# Altium footprint library QFN_Sq_50P_Side_V.PcbLib: 33 footprints (part 3 of 3)
Each footprint in its own frame and in the unit in brackets; x right, y up, seen from the top. Pads: shape width x height; smd on the part's side, far side on the other; paste and mask are expansions set on the pad; w line width, h text height; cw(c..) or ccw(c..) is an arc to the next point about the centre after c.
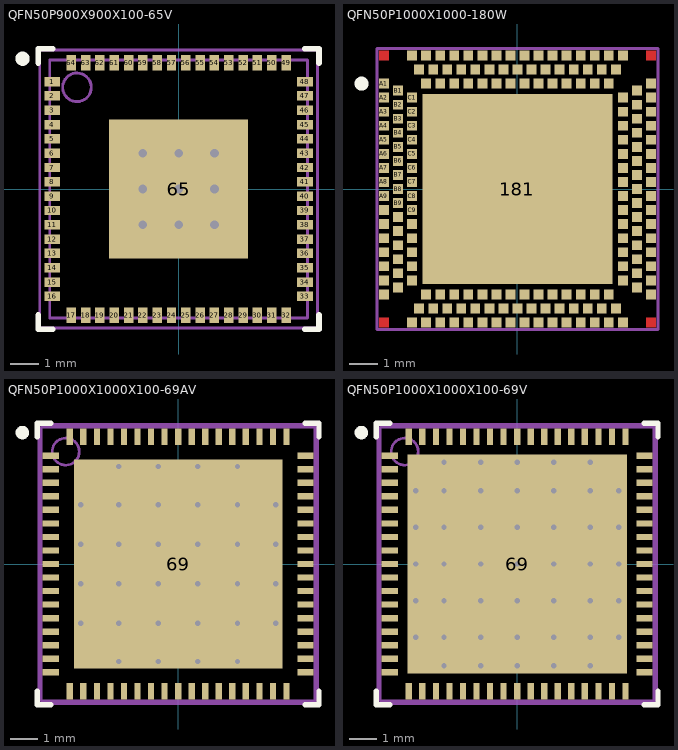
[diagram p2: the footprints below, top view; thin cyan lines are the x and y axes]

## QFN50P900X900X100-65V [mm] "QFN, 64-Leads, Body 9x9mm, Pitch 0.50mm, AD Recommended"
height 1
pads (65):
  rect 0.55x0.33 smd mask+0.06: 1(-4.41,3.75) 2(-4.41,3.25) 3(-4.41,2.75) 4(-4.41,2.25) 5(-4.41,1.75) 6(-4.41,1.25) 7(-4.41,0.75) 8(-4.41,0.25) 9(-4.41,-0.25) 10(-4.41,-0.75) 11(-4.41,-1.25) 12(-4.41,-1.75) 13(-4.41,-2.25) 14(-4.41,-2.75) 15(-4.41,-3.25) 16(-4.41,-3.75) 33(4.41,-3.75) 34(4.41,-3.25) 35(4.41,-2.75) 36(4.41,-2.25) 37(4.41,-1.75) 38(4.41,-1.25) 39(4.41,-0.75) 40(4.41,-0.25) 41(4.41,0.25) 42(4.41,0.75) 43(4.41,1.25) 44(4.41,1.75) 45(4.41,2.25) 46(4.41,2.75) 47(4.41,3.25) 48(4.41,3.75)
  rect 0.33x0.55 smd mask+0.06: 17(-3.75,-4.41) 18(-3.25,-4.41) 19(-2.75,-4.41) 20(-2.25,-4.41) 21(-1.75,-4.41) 22(-1.25,-4.41) 23(-0.75,-4.41) 24(-0.25,-4.41) 25(0.25,-4.41) 26(0.75,-4.41) 27(1.25,-4.41) 28(1.75,-4.41) 29(2.25,-4.41) 30(2.75,-4.41) 31(3.25,-4.41) 32(3.75,-4.41) 49(3.75,4.41) 50(3.25,4.41) 51(2.75,4.41) 52(2.25,4.41) 53(1.75,4.41) 54(1.25,4.41) 55(0.75,4.41) 56(0.25,4.41) 57(-0.25,4.41) 58(-0.75,4.41) 59(-1.25,4.41) 60(-1.75,4.41) 61(-2.25,4.41) 62(-2.75,4.41) 63(-3.25,4.41) 64(-3.75,4.41)
  rect 4.85x4.85 smd paste-2.425 mask-0.1: 65(0,0)
via 1.25,-1.25 diameter 0.6 hole 0.3
via 0,-1.25 diameter 0.6 hole 0.3
via -1.25,-1.25 diameter 0.6 hole 0.3
via 1.25,0 diameter 0.6 hole 0.3
via 0,0 diameter 0.6 hole 0.3
via -1.25,0 diameter 0.6 hole 0.3
via -1.25,1.25 diameter 0.6 hole 0.3
via 0,1.25 diameter 0.6 hole 0.3
via 1.25,1.25 diameter 0.6 hole 0.3
Top Overlay:
  circle w0.25: c-5.45,4.55 r0.125
  lines w0.2: -4.9,-4.4 -4.9,-4.9 -4.4,-4.9 ; -4.9,4.4 -4.9,4.9 -4.4,4.9 ; 4.4,-4.9 4.9,-4.9 4.9,-4.4 ; 4.4,4.9 4.9,4.9 4.9,4.4
Top Paste:
  region: 1.1,2.35 0.15,2.35 0.15,1.4 1.1,1.4
  region: -0.15,2.35 -1.1,2.35 -1.1,1.4 -0.15,1.4
  region: 2.35,2.35 1.4,2.35 1.4,1.4 2.35,1.4
  rectangle: -2.35,1.4 -1.4,2.35
  rectangle: -1.1,-2.35 -0.15,-1.4
  rectangle: 0.15,-2.35 1.1,-1.4
  rectangle: -2.35,-2.35 -1.4,-1.4
  region: 2.35,-1.4 1.4,-1.4 1.4,-2.35 2.35,-2.35
  region: 2.35,-0.15 1.4,-0.15 1.4,-1.1 2.35,-1.1
  region: 2.35,1.1 1.4,1.1 1.4,0.15 2.35,0.15
  rectangle: -2.35,0.15 -1.4,1.1
  rectangle: -2.35,-1.1 -1.4,-0.15
  rectangle: 0.15,-1.1 1.1,-0.15
  rectangle: -1.1,-1.1 -0.15,-0.15
  rectangle: -1.1,0.15 -0.15,1.1
  rectangle: 0.15,0.15 1.1,1.1
Mechanical 13:
  circle w0.1: c-3.55,3.55 r0.5
  lines w0.1: -4.5,-4.5 -4.5,4.5 4.5,4.5 4.5,-4.5 -4.5,-4.5
Mechanical 15:
  lines w0.1: -0.5,0 0.5,0 ; 0,-0.5 0,0.5 ; -4.85,-4.85 -4.85,4.85 4.85,4.85 4.85,-4.85 -4.85,-4.85
3D body: height 1, standoff 0, extent -4.5,-4.5 4.5,4.5

## QFN50P1000X1000-180W [mm] "QFN, 180-Leads, Body 10x10mm, Pitch 0.5mm"
height 0.8
pads (181):
  rect 6.75x6.75 smd: 181(0,0)
  rect 0.35x0.35 smd: A1(-4.75,3.75) A2(-4.75,3.25) A3(-4.75,2.75) A4(-4.75,2.25) A5(-4.75,1.75) A6(-4.75,1.25) A7(-4.75,0.75) A8(-4.75,0.25) A9(-4.75,-0.25) A10(-4.75,-0.75) A11(-4.75,-1.25) A12(-4.75,-1.75) A13(-4.75,-2.25) A14(-4.75,-2.75) A15(-4.75,-3.25) A16(-4.75,-3.75) A17(-3.75,-4.75) A18(-3.25,-4.75) A19(-2.75,-4.75) A20(-2.25,-4.75) A21(-1.75,-4.75) A22(-1.25,-4.75) A23(-0.75,-4.75) A24(-0.25,-4.75) A25(0.25,-4.75) A26(0.75,-4.75) A27(1.25,-4.75) A28(1.75,-4.75) A29(2.25,-4.75) A30(2.75,-4.75) A31(3.25,-4.75) A32(3.75,-4.75) A33(4.75,-3.75) A34(4.75,-3.25) A35(4.75,-2.75) A36(4.75,-2.25) A37(4.75,-1.75) A38(4.75,-1.25) A39(4.75,-0.75) A40(4.75,-0.25) A41(4.75,0.25) A42(4.75,0.75) A43(4.75,1.25) A44(4.75,1.75) A45(4.75,2.25) A46(4.75,2.75) A47(4.75,3.25) A48(4.75,3.75) A49(3.75,4.75) A50(3.25,4.75) A51(2.75,4.75) A52(2.25,4.75) A53(1.75,4.75) A54(1.25,4.75) A55(0.75,4.75) A56(0.25,4.75) A57(-0.25,4.75) A58(-0.75,4.75) A59(-1.25,4.75) A60(-1.75,4.75) A61(-2.25,4.75) A62(-2.75,4.75) A63(-3.25,4.75) A64(-3.75,4.75) B1(-4.25,3.5) B2(-4.25,3) B3(-4.25,2.5) B4(-4.25,2) B5(-4.25,1.5) B6(-4.25,1) B7(-4.25,0.5) B8(-4.25,0) B9(-4.25,-0.5) B10(-4.25,-1) B11(-4.25,-1.5) B12(-4.25,-2) B13(-4.25,-2.5) B14(-4.25,-3) B15(-4.25,-3.5) B16(-3.5,-4.25) B17(-3,-4.25) B18(-2.5,-4.25) B19(-2,-4.25) B20(-1.5,-4.25) B21(-1,-4.25) B22(-0.5,-4.25) B23(0,-4.25) B24(0.5,-4.25) B25(1,-4.25) B26(1.5,-4.25) B27(2,-4.25) B28(2.5,-4.25) B29(3,-4.25) B30(3.5,-4.25) B31(4.25,-3.5) B32(4.25,-3) B33(4.25,-2.5) B34(4.25,-2) B35(4.25,-1.5) B36(4.25,-1) B37(4.25,-0.5) B38(4.25,0) B39(4.25,0.5) B40(4.25,1) B41(4.25,1.5) B42(4.25,2) B43(4.25,2.5) B44(4.25,3) B45(4.25,3.5) B46(3.5,4.25) B47(3,4.25) B48(2.5,4.25) B49(2,4.25) B50(1.5,4.25) B51(1,4.25) B52(0.5,4.25) B53(0,4.25) B54(-0.5,4.25) B55(-1,4.25) B56(-1.5,4.25) B57(-2,4.25) B58(-2.5,4.25) B59(-3,4.25) B60(-3.5,4.25) C1(-3.75,3.25) C2(-3.75,2.75) C3(-3.75,2.25) C4(-3.75,1.75) C5(-3.75,1.25) C6(-3.75,0.75) C7(-3.75,0.25) C8(-3.75,-0.25) C9(-3.75,-0.75) C10(-3.75,-1.25) C11(-3.75,-1.75) C12(-3.75,-2.25) C13(-3.75,-2.75) C14(-3.75,-3.25) C15(-3.25,-3.75) C16(-2.75,-3.75) C17(-2.25,-3.75) C18(-1.75,-3.75) C19(-1.25,-3.75) C20(-0.75,-3.75) C21(-0.25,-3.75) C22(0.25,-3.75) C23(0.75,-3.75) C24(1.25,-3.75) C25(1.75,-3.75) C26(2.25,-3.75) C27(2.75,-3.75) C28(3.25,-3.75) C29(3.75,-3.25) C30(3.75,-2.75) C31(3.75,-2.25) C32(3.75,-1.75) C33(3.75,-1.25) C34(3.75,-0.75) C35(3.75,-0.25) C36(3.75,0.25) C37(3.75,0.75) C38(3.75,1.25) C39(3.75,1.75) C40(3.75,2.25) C41(3.75,2.75) C42(3.75,3.25) C43(3.25,3.75) C44(2.75,3.75) C45(2.25,3.75) C46(1.75,3.75) C47(1.25,3.75) C48(0.75,3.75) C49(0.25,3.75) C50(-0.25,3.75) C51(-0.75,3.75) C52(-1.25,3.75) C53(-1.75,3.75) C54(-2.25,3.75) C55(-2.75,3.75) C56(-3.25,3.75)
Top Layer:
  rectangle: -4.925,4.575 -4.575,4.925
  rectangle: -4.925,-4.925 -4.575,-4.575
  rectangle: 4.575,-4.925 4.925,-4.575
  rectangle: 4.575,4.575 4.925,4.925
Top Overlay:
  circle w0.25: c-5.55,3.75 r0.125
Mechanical 13:
  lines w0.1: -5,-5 5,-5 5,5 -5,5 -5,-5
3D body: height 0.8, standoff 0, extent -4.999,-4.999 4.999,4.999

## QFN50P1000X1000X100-69AV [mm] "QFN, 68-Leads, Body 10x10mm, Pitch 0.5mm, NSC Recommended"
height 1
pads (69):
  rect 0.6x0.23 smd paste-0.115 mask+0.051: 1(-4.7,4) 2(-4.7,3.5) 3(-4.7,3) 4(-4.7,2.5) 5(-4.7,2) 6(-4.7,1.5) 7(-4.7,1) 8(-4.7,0.5) 9(-4.7,0) 10(-4.7,-0.5) 11(-4.7,-1) 12(-4.7,-1.5) 13(-4.7,-2) 14(-4.7,-2.5) 15(-4.7,-3) 16(-4.7,-3.5) 17(-4.7,-4) 35(4.7,-4) 36(4.7,-3.5) 37(4.7,-3) 38(4.7,-2.5) 39(4.7,-2) 40(4.7,-1.5) 41(4.7,-1) 42(4.7,-0.5) 43(4.7,0) 44(4.7,0.5) 45(4.7,1) 46(4.7,1.5) 47(4.7,2) 48(4.7,2.5) 49(4.7,3) 50(4.7,3.5) 51(4.7,4)
  rect 0.23x0.6 smd paste-0.115 mask+0.051: 18(-4,-4.7) 19(-3.5,-4.7) 20(-3,-4.7) 21(-2.5,-4.7) 22(-2,-4.7) 23(-1.5,-4.7) 24(-1,-4.7) 25(-0.5,-4.7) 26(0,-4.7) 27(0.5,-4.7) 28(1,-4.7) 29(1.5,-4.7) 30(2,-4.7) 31(2.5,-4.7) 32(3,-4.7) 33(3.5,-4.7) 34(4,-4.7) 52(4,4.7) 53(3.5,4.7) 54(3,4.7) 55(2.5,4.7) 56(2,4.7) 57(1.5,4.7) 58(1,4.7) 59(0.5,4.7) 60(0,4.7) 61(-0.5,4.7) 62(-1,4.7) 63(-1.5,4.7) 64(-2,4.7) 65(-2.5,4.7) 66(-3,4.7) 67(-3.5,4.7) 68(-4,4.7)
  rect 7.7x7.7 smd paste-3.85 mask+0.051: 69(0,0)
via 0.73,0.73 diameter 0.5 hole 0.2
via -0.73,0.73 diameter 0.5 hole 0.2
via -0.73,-0.73 diameter 0.5 hole 0.2
via 0.73,-0.73 diameter 0.5 hole 0.2
via -2.19,0.73 diameter 0.5 hole 0.2
via 2.19,0.73 diameter 0.5 hole 0.2
via 2.19,-0.73 diameter 0.5 hole 0.2
via -2.19,-0.73 diameter 0.5 hole 0.2
via -2.19,-2.19 diameter 0.5 hole 0.2
via -0.73,-2.19 diameter 0.5 hole 0.2
via 0.73,-2.19 diameter 0.5 hole 0.2
via 2.19,-2.19 diameter 0.5 hole 0.2
via -2.19,2.19 diameter 0.5 hole 0.2
via -0.73,2.19 diameter 0.5 hole 0.2
via 0.73,2.19 diameter 0.5 hole 0.2
via 2.19,2.19 diameter 0.5 hole 0.2
via -2.19,3.6 diameter 0.5 hole 0.2
via -0.73,3.6 diameter 0.5 hole 0.2
via 0.73,3.6 diameter 0.5 hole 0.2
via 2.19,3.6 diameter 0.5 hole 0.2
via 0.73,-3.6 diameter 0.5 hole 0.2
via 2.19,-3.6 diameter 0.5 hole 0.2
via -0.73,-3.6 diameter 0.5 hole 0.2
via -2.19,-3.6 diameter 0.5 hole 0.2
via 3.6,-0.73 diameter 0.5 hole 0.2
via 3.6,-2.19 diameter 0.5 hole 0.2
via -3.6,-2.19 diameter 0.5 hole 0.2
via -3.6,-0.73 diameter 0.5 hole 0.2
via -3.6,2.19 diameter 0.5 hole 0.2
via -3.6,0.73 diameter 0.5 hole 0.2
via 3.6,2.19 diameter 0.5 hole 0.2
via 3.6,0.73 diameter 0.5 hole 0.2
Top Overlay:
  circle w0.25: c-5.75,4.85 r0.125
  lines w0.2: -5.2,-4.7 -5.2,-5.2 -4.7,-5.2 ; -5.2,4.7 -5.2,5.2 -4.7,5.2 ; 4.7,-5.2 5.2,-5.2 5.2,-4.7 ; 4.7,5.2 5.2,5.2 5.2,4.7
Top Paste:
  rectangle: -5.2,-4.115 -4.5,-3.885
  rectangle: -5.2,-3.615 -4.5,-3.385
  rectangle: -5.2,-3.115 -4.5,-2.885
  rectangle: -5.2,-2.615 -4.5,-2.385
  rectangle: -5.2,-2.115 -4.5,-1.885
  rectangle: -5.2,-1.615 -4.5,-1.385
  rectangle: -5.2,-1.115 -4.5,-0.885
  rectangle: -5.2,-0.615 -4.5,-0.385
  rectangle: -5.2,-0.115 -4.5,0.115
  rectangle: -5.2,0.385 -4.5,0.615
  rectangle: -5.2,0.885 -4.5,1.115
  rectangle: -5.2,1.385 -4.5,1.615
  rectangle: -5.2,1.885 -4.5,2.115
  rectangle: -5.2,2.385 -4.5,2.615
  rectangle: -5.2,2.885 -4.5,3.115
  rectangle: -5.2,3.385 -4.5,3.615
  rectangle: -5.2,3.885 -4.5,4.115
  region: -3.885,-5.2 -3.885,-4.5 -4.115,-4.5 -4.115,-5.2
  region: -3.385,-5.2 -3.385,-4.5 -3.615,-4.5 -3.615,-5.2
  region: -2.885,-5.2 -2.885,-4.5 -3.115,-4.5 -3.115,-5.2
  region: -2.385,-5.2 -2.385,-4.5 -2.615,-4.5 -2.615,-5.2
  region: -1.885,-5.2 -1.885,-4.5 -2.115,-4.5 -2.115,-5.2
  region: -1.385,-5.2 -1.385,-4.5 -1.615,-4.5 -1.615,-5.2
  region: -0.885,-5.2 -0.885,-4.5 -1.115,-4.5 -1.115,-5.2
  region: -0.385,-5.2 -0.385,-4.5 -0.615,-4.5 -0.615,-5.2
  region: 0.115,-5.2 0.115,-4.5 -0.115,-4.5 -0.115,-5.2
  region: 0.615,-5.2 0.615,-4.5 0.385,-4.5 0.385,-5.2
  region: 1.115,-5.2 1.115,-4.5 0.885,-4.5 0.885,-5.2
  region: 1.615,-5.2 1.615,-4.5 1.385,-4.5 1.385,-5.2
  region: 2.115,-5.2 2.115,-4.5 1.885,-4.5 1.885,-5.2
  region: 2.615,-5.2 2.615,-4.5 2.385,-4.5 2.385,-5.2
  region: 3.115,-5.2 3.115,-4.5 2.885,-4.5 2.885,-5.2
  region: 3.615,-5.2 3.615,-4.5 3.385,-4.5 3.385,-5.2
  region: 4.115,-5.2 4.115,-4.5 3.885,-4.5 3.885,-5.2
  region: 5.2,-3.885 4.5,-3.885 4.5,-4.115 5.2,-4.115
  region: 5.2,-3.385 4.5,-3.385 4.5,-3.615 5.2,-3.615
  region: 5.2,-2.885 4.5,-2.885 4.5,-3.115 5.2,-3.115
  region: 5.2,-2.385 4.5,-2.385 4.5,-2.615 5.2,-2.615
  region: 5.2,-1.885 4.5,-1.885 4.5,-2.115 5.2,-2.115
  region: 5.2,-1.385 4.5,-1.385 4.5,-1.615 5.2,-1.615
  region: 5.2,-0.885 4.5,-0.885 4.5,-1.115 5.2,-1.115
  region: 5.2,-0.385 4.5,-0.385 4.5,-0.615 5.2,-0.615
  region: 5.2,0.115 4.5,0.115 4.5,-0.115 5.2,-0.115
  region: 5.2,0.615 4.5,0.615 4.5,0.385 5.2,0.385
  region: 5.2,1.115 4.5,1.115 4.5,0.885 5.2,0.885
  region: 5.2,1.615 4.5,1.615 4.5,1.385 5.2,1.385
  region: 5.2,2.115 4.5,2.115 4.5,1.885 5.2,1.885
  region: 5.2,2.615 4.5,2.615 4.5,2.385 5.2,2.385
  region: 5.2,3.115 4.5,3.115 4.5,2.885 5.2,2.885
  region: 5.2,3.615 4.5,3.615 4.5,3.385 5.2,3.385
  region: 5.2,4.115 4.5,4.115 4.5,3.885 5.2,3.885
  region: 3.885,5.2 3.885,4.5 4.115,4.5 4.115,5.2
  region: 3.385,5.2 3.385,4.5 3.615,4.5 3.615,5.2
  region: 2.885,5.2 2.885,4.5 3.115,4.5 3.115,5.2
  region: 2.385,5.2 2.385,4.5 2.615,4.5 2.615,5.2
  region: 1.885,5.2 1.885,4.5 2.115,4.5 2.115,5.2
  region: 1.385,5.2 1.385,4.5 1.615,4.5 1.615,5.2
  region: 0.885,5.2 0.885,4.5 1.115,4.5 1.115,5.2
  region: 0.385,5.2 0.385,4.5 0.615,4.5 0.615,5.2
  region: -0.115,5.2 -0.115,4.5 0.115,4.5 0.115,5.2
  region: -0.615,5.2 -0.615,4.5 -0.385,4.5 -0.385,5.2
  region: -1.115,5.2 -1.115,4.5 -0.885,4.5 -0.885,5.2
  region: -1.615,5.2 -1.615,4.5 -1.385,4.5 -1.385,5.2
  region: -2.115,5.2 -2.115,4.5 -1.885,4.5 -1.885,5.2
  region: -2.615,5.2 -2.615,4.5 -2.385,4.5 -2.385,5.2
  region: -3.115,5.2 -3.115,4.5 -2.885,4.5 -2.885,5.2
  region: -3.615,5.2 -3.615,4.5 -3.385,4.5 -3.385,5.2
  region: -4.115,5.2 -4.115,4.5 -3.885,4.5 -3.885,5.2
  rectangle: -0.58,-0.58 0.58,0.58
  rectangle: 0.88,-0.58 2.04,0.58
  rectangle: 2.34,-0.58 3.75,0.58
  rectangle: 0.88,0.88 2.04,2.04
  rectangle: 0.88,2.34 2.04,3.75
  rectangle: 2.34,2.34 3.75,3.75
  rectangle: 2.34,0.88 3.75,2.04
  rectangle: -0.58,0.88 0.58,2.04
  rectangle: -0.58,2.34 0.58,3.75
  rectangle: -2.04,2.34 -0.88,3.75
  rectangle: -3.75,2.34 -2.34,3.75
  rectangle: -3.75,0.88 -2.34,2.04
  rectangle: -2.04,0.88 -0.88,2.04
  rectangle: -2.04,-0.58 -0.88,0.58
  rectangle: -3.75,-0.58 -2.34,0.58
  rectangle: -3.75,-2.04 -2.34,-0.88
  rectangle: -2.04,-2.04 -0.88,-0.88
  rectangle: -0.58,-2.04 0.58,-0.88
  rectangle: 0.88,-2.04 2.04,-0.88
  rectangle: 2.34,-2.04 3.75,-0.88
  rectangle: 2.34,-3.75 3.75,-2.34
  rectangle: 0.88,-3.75 2.04,-2.34
  rectangle: -0.58,-3.75 0.58,-2.34
  rectangle: -2.04,-3.75 -0.88,-2.34
  rectangle: -3.75,-3.75 -2.34,-2.34
Mechanical 13:
  circle w0.1: c-4.15,4.15 r0.5
  lines w0.1: -5.05,-5.05 -5.05,5.05 5.05,5.05 5.05,-5.05 -5.05,-5.05
Mechanical 15:
  lines w0.1: -0.5,0 0.5,0 ; 0,-0.5 0,0.5 ; -5.15,-5.15 -5.15,5.15 5.15,5.15 5.15,-5.15 -5.15,-5.15
3D body: height 1, standoff 0, extent -5.049,-5.049 5.049,5.049

## QFN50P1000X1000X100-69V [mm] "QFN, 68-Leads, Body 10x10mm, Pitch 0.5mm, NSC Recommended"
height 1
pads (69):
  rect 0.6x0.23 smd paste-0.115 mask+0.051: 1(-4.7,4) 2(-4.7,3.5) 3(-4.7,3) 4(-4.7,2.5) 5(-4.7,2) 6(-4.7,1.5) 7(-4.7,1) 8(-4.7,0.5) 9(-4.7,0) 10(-4.7,-0.5) 11(-4.7,-1) 12(-4.7,-1.5) 13(-4.7,-2) 14(-4.7,-2.5) 15(-4.7,-3) 16(-4.7,-3.5) 17(-4.7,-4) 35(4.7,-4) 36(4.7,-3.5) 37(4.7,-3) 38(4.7,-2.5) 39(4.7,-2) 40(4.7,-1.5) 41(4.7,-1) 42(4.7,-0.5) 43(4.7,0) 44(4.7,0.5) 45(4.7,1) 46(4.7,1.5) 47(4.7,2) 48(4.7,2.5) 49(4.7,3) 50(4.7,3.5) 51(4.7,4)
  rect 0.23x0.6 smd paste-0.115 mask+0.051: 18(-4,-4.7) 19(-3.5,-4.7) 20(-3,-4.7) 21(-2.5,-4.7) 22(-2,-4.7) 23(-1.5,-4.7) 24(-1,-4.7) 25(-0.5,-4.7) 26(0,-4.7) 27(0.5,-4.7) 28(1,-4.7) 29(1.5,-4.7) 30(2,-4.7) 31(2.5,-4.7) 32(3,-4.7) 33(3.5,-4.7) 34(4,-4.7) 52(4,4.7) 53(3.5,4.7) 54(3,4.7) 55(2.5,4.7) 56(2,4.7) 57(1.5,4.7) 58(1,4.7) 59(0.5,4.7) 60(0,4.7) 61(-0.5,4.7) 62(-1,4.7) 63(-1.5,4.7) 64(-2,4.7) 65(-2.5,4.7) 66(-3,4.7) 67(-3.5,4.7) 68(-4,4.7)
  rect 8.1x8.1 smd paste-4.05 mask+0.051: 69(0,0)
via 0,3.75 diameter 0.5 hole 0.2
via 1.35,3.75 diameter 0.5 hole 0.2
via 2.7,3.75 diameter 0.5 hole 0.2
via -1.35,3.75 diameter 0.5 hole 0.2
via -2.7,3.75 diameter 0.5 hole 0.2
via 3.75,0 diameter 0.5 hole 0.2
via 3.75,-1.35 diameter 0.5 hole 0.2
via 3.75,-2.7 diameter 0.5 hole 0.2
via 3.75,1.35 diameter 0.5 hole 0.2
via 3.75,2.7 diameter 0.5 hole 0.2
via 0,-3.75 diameter 0.5 hole 0.2
via -1.35,-3.75 diameter 0.5 hole 0.2
via -2.7,-3.75 diameter 0.5 hole 0.2
via 1.35,-3.75 diameter 0.5 hole 0.2
via 2.7,-3.75 diameter 0.5 hole 0.2
via -3.75,-2.7 diameter 0.5 hole 0.2
via -3.75,-1.35 diameter 0.5 hole 0.2
via -3.75,2.7 diameter 0.5 hole 0.2
via -3.75,1.35 diameter 0.5 hole 0.2
via -1.35,1.35 diameter 0.5 hole 0.2
via -2.7,1.35 diameter 0.5 hole 0.2
via -2.7,0 diameter 0.5 hole 0.2
via 2.7,1.35 diameter 0.5 hole 0.2
via 1.35,1.35 diameter 0.5 hole 0.2
via 1.35,0 diameter 0.5 hole 0.2
via 0,0 diameter 0.5 hole 0.2
via 0,1.35 diameter 0.5 hole 0.2
via -1.35,0 diameter 0.5 hole 0.2
via 2.7,0 diameter 0.5 hole 0.2
via 0,2.7 diameter 0.5 hole 0.2
via 1.35,2.7 diameter 0.5 hole 0.2
via 2.7,2.7 diameter 0.5 hole 0.2
via -2.7,2.7 diameter 0.5 hole 0.2
via -1.35,2.7 diameter 0.5 hole 0.2
via 1.35,-2.7 diameter 0.5 hole 0.2
via 2.7,-2.7 diameter 0.5 hole 0.2
via -2.7,-2.7 diameter 0.5 hole 0.2
via -1.35,-2.7 diameter 0.5 hole 0.2
via 0,-2.7 diameter 0.5 hole 0.2
via 0,-1.35 diameter 0.5 hole 0.2
via -1.35,-1.35 diameter 0.5 hole 0.2
via -2.7,-1.35 diameter 0.5 hole 0.2
via 2.7,-1.35 diameter 0.5 hole 0.2
via 1.35,-1.35 diameter 0.5 hole 0.2
via -3.75,0 diameter 0.5 hole 0.2
Top Overlay:
  circle w0.25: c-5.75,4.85 r0.125
  lines w0.2: -5.2,-4.7 -5.2,-5.2 -4.7,-5.2 ; -5.2,4.7 -5.2,5.2 -4.7,5.2 ; 4.7,-5.2 5.2,-5.2 5.2,-4.7 ; 4.7,5.2 5.2,5.2 5.2,4.7
Top Paste:
  rectangle: -3.9,0.15 -2.85,1.2
  region: -2.85,-1.2 -2.85,-0.15 -3.9,-0.15 -3.9,-1.2
  region: -2.55,1.2 -2.55,0.15 -1.5,0.15 -1.5,1.2
  rectangle: -1.2,1.5 -0.15,2.55
  region: -1.5,-1.2 -1.5,-0.15 -2.55,-0.15 -2.55,-1.2
  region: -2.55,2.55 -2.55,1.5 -1.5,1.5 -1.5,2.55
  region: 3.9,-0.15 2.85,-0.15 2.85,-1.2 3.9,-1.2
  rectangle: -3.9,1.5 -2.85,2.55
  region: 2.85,2.55 2.85,1.5 3.9,1.5 3.9,2.55
  rectangle: -1.2,0.15 -0.15,1.2
  region: 3.9,1.2 2.85,1.2 2.85,0.15 3.9,0.15
  region: 0.15,2.55 0.15,1.5 1.2,1.5 1.2,2.55
  region: 1.5,2.55 1.5,1.5 2.55,1.5 2.55,2.55
  region: -0.15,-1.2 -0.15,-0.15 -1.2,-0.15 -1.2,-1.2
  region: 1.2,-1.2 1.2,-0.15 0.15,-0.15 0.15,-1.2
  region: -2.55,3.9 -2.55,2.85 -1.5,2.85 -1.5,3.9
  region: 1.2,-2.85 0.15,-2.85 0.15,-3.9 1.2,-3.9
  region: 3.9,-2.85 2.85,-2.85 2.85,-3.9 3.9,-3.9
  region: -0.15,-3.9 -0.15,-2.85 -1.2,-2.85 -1.2,-3.9
  region: 2.55,-3.9 2.55,-2.85 1.5,-2.85 1.5,-3.9
  rectangle: -1.2,2.85 -0.15,3.9
  region: 2.55,-1.2 2.55,-0.15 1.5,-0.15 1.5,-1.2
  region: 1.5,1.2 1.5,0.15 2.55,0.15 2.55,1.2
  region: 0.15,3.9 0.15,2.85 1.2,2.85 1.2,3.9
  region: 2.55,-2.55 2.55,-1.5 1.5,-1.5 1.5,-2.55
  region: -0.15,-2.55 -0.15,-1.5 -1.2,-1.5 -1.2,-2.55
  region: 2.85,3.9 2.85,2.85 3.9,2.85 3.9,3.9
  region: -1.5,-2.55 -1.5,-1.5 -2.55,-1.5 -2.55,-2.55
  region: 1.5,3.9 1.5,2.85 2.55,2.85 2.55,3.9
  region: 0.15,1.2 0.15,0.15 1.2,0.15 1.2,1.2
  region: 1.2,-1.5 0.15,-1.5 0.15,-2.55 1.2,-2.55
  rectangle: -3.9,2.85 -2.85,3.9
  region: -2.85,-3.9 -2.85,-2.85 -3.9,-2.85 -3.9,-3.9
  region: 3.9,-1.5 2.85,-1.5 2.85,-2.55 3.9,-2.55
  region: -2.85,-2.55 -2.85,-1.5 -3.9,-1.5 -3.9,-2.55
  region: -1.5,-3.9 -1.5,-2.85 -2.55,-2.85 -2.55,-3.9
  rectangle: -5.2,-4.115 -4.5,-3.885
  rectangle: -5.2,-3.615 -4.5,-3.385
  rectangle: -5.2,-3.115 -4.5,-2.885
  rectangle: -5.2,-2.615 -4.5,-2.385
  rectangle: -5.2,-2.115 -4.5,-1.885
  rectangle: -5.2,-1.615 -4.5,-1.385
  rectangle: -5.2,-1.115 -4.5,-0.885
  rectangle: -5.2,-0.615 -4.5,-0.385
  rectangle: -5.2,-0.115 -4.5,0.115
  rectangle: -5.2,0.385 -4.5,0.615
  rectangle: -5.2,0.885 -4.5,1.115
  rectangle: -5.2,1.385 -4.5,1.615
  rectangle: -5.2,1.885 -4.5,2.115
  rectangle: -5.2,2.385 -4.5,2.615
  rectangle: -5.2,2.885 -4.5,3.115
  rectangle: -5.2,3.385 -4.5,3.615
  rectangle: -5.2,3.885 -4.5,4.115
  region: -3.885,-5.2 -3.885,-4.5 -4.115,-4.5 -4.115,-5.2
  region: -3.385,-5.2 -3.385,-4.5 -3.615,-4.5 -3.615,-5.2
  region: -2.885,-5.2 -2.885,-4.5 -3.115,-4.5 -3.115,-5.2
  region: -2.385,-5.2 -2.385,-4.5 -2.615,-4.5 -2.615,-5.2
  region: -1.885,-5.2 -1.885,-4.5 -2.115,-4.5 -2.115,-5.2
  region: -1.385,-5.2 -1.385,-4.5 -1.615,-4.5 -1.615,-5.2
  region: -0.885,-5.2 -0.885,-4.5 -1.115,-4.5 -1.115,-5.2
  region: -0.385,-5.2 -0.385,-4.5 -0.615,-4.5 -0.615,-5.2
  region: 0.115,-5.2 0.115,-4.5 -0.115,-4.5 -0.115,-5.2
  region: 0.615,-5.2 0.615,-4.5 0.385,-4.5 0.385,-5.2
  region: 1.115,-5.2 1.115,-4.5 0.885,-4.5 0.885,-5.2
  region: 1.615,-5.2 1.615,-4.5 1.385,-4.5 1.385,-5.2
  region: 2.115,-5.2 2.115,-4.5 1.885,-4.5 1.885,-5.2
  region: 2.615,-5.2 2.615,-4.5 2.385,-4.5 2.385,-5.2
  region: 3.115,-5.2 3.115,-4.5 2.885,-4.5 2.885,-5.2
  region: 3.615,-5.2 3.615,-4.5 3.385,-4.5 3.385,-5.2
  region: 4.115,-5.2 4.115,-4.5 3.885,-4.5 3.885,-5.2
  region: 5.2,-3.885 4.5,-3.885 4.5,-4.115 5.2,-4.115
  region: 5.2,-3.385 4.5,-3.385 4.5,-3.615 5.2,-3.615
  region: 5.2,-2.885 4.5,-2.885 4.5,-3.115 5.2,-3.115
  region: 5.2,-2.385 4.5,-2.385 4.5,-2.615 5.2,-2.615
  region: 5.2,-1.885 4.5,-1.885 4.5,-2.115 5.2,-2.115
  region: 5.2,-1.385 4.5,-1.385 4.5,-1.615 5.2,-1.615
  region: 5.2,-0.885 4.5,-0.885 4.5,-1.115 5.2,-1.115
  region: 5.2,-0.385 4.5,-0.385 4.5,-0.615 5.2,-0.615
  region: 5.2,0.115 4.5,0.115 4.5,-0.115 5.2,-0.115
  region: 5.2,0.615 4.5,0.615 4.5,0.385 5.2,0.385
  region: 5.2,1.115 4.5,1.115 4.5,0.885 5.2,0.885
  region: 5.2,1.615 4.5,1.615 4.5,1.385 5.2,1.385
  region: 5.2,2.115 4.5,2.115 4.5,1.885 5.2,1.885
  region: 5.2,2.615 4.5,2.615 4.5,2.385 5.2,2.385
  region: 5.2,3.115 4.5,3.115 4.5,2.885 5.2,2.885
  region: 5.2,3.615 4.5,3.615 4.5,3.385 5.2,3.385
  region: 5.2,4.115 4.5,4.115 4.5,3.885 5.2,3.885
  region: 3.885,5.2 3.885,4.5 4.115,4.5 4.115,5.2
  region: 3.385,5.2 3.385,4.5 3.615,4.5 3.615,5.2
  region: 2.885,5.2 2.885,4.5 3.115,4.5 3.115,5.2
  region: 2.385,5.2 2.385,4.5 2.615,4.5 2.615,5.2
  region: 1.885,5.2 1.885,4.5 2.115,4.5 2.115,5.2
  region: 1.385,5.2 1.385,4.5 1.615,4.5 1.615,5.2
  region: 0.885,5.2 0.885,4.5 1.115,4.5 1.115,5.2
  region: 0.385,5.2 0.385,4.5 0.615,4.5 0.615,5.2
  region: -0.115,5.2 -0.115,4.5 0.115,4.5 0.115,5.2
  region: -0.615,5.2 -0.615,4.5 -0.385,4.5 -0.385,5.2
  region: -1.115,5.2 -1.115,4.5 -0.885,4.5 -0.885,5.2
  region: -1.615,5.2 -1.615,4.5 -1.385,4.5 -1.385,5.2
  region: -2.115,5.2 -2.115,4.5 -1.885,4.5 -1.885,5.2
  region: -2.615,5.2 -2.615,4.5 -2.385,4.5 -2.385,5.2
  region: -3.115,5.2 -3.115,4.5 -2.885,4.5 -2.885,5.2
  region: -3.615,5.2 -3.615,4.5 -3.385,4.5 -3.385,5.2
  region: -4.115,5.2 -4.115,4.5 -3.885,4.5 -3.885,5.2
Mechanical 13:
  circle w0.1: c-4.15,4.15 r0.5
  lines w0.1: -5.05,-5.05 -5.05,5.05 5.05,5.05 5.05,-5.05 -5.05,-5.05
Mechanical 15:
  lines w0.1: -0.5,0 0.5,0 ; 0,-0.5 0,0.5 ; -5.15,-5.15 -5.15,5.15 5.15,5.15 5.15,-5.15 -5.15,-5.15
3D body: height 1, standoff 0, extent -5.049,-5.049 5.049,5.049